# EAGLE library part 1X10 (library headers(2mm)(samtec))
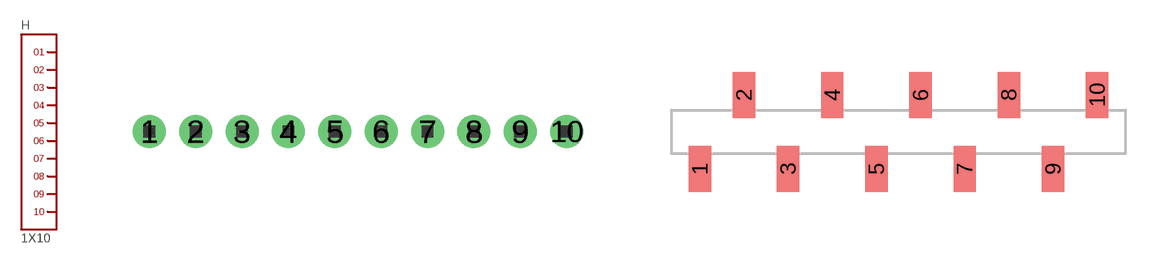
[diagram p12: symbol with the pads of 1X10; footprints 1X10, 1X10_MMS.SV]

Designator prefix H

## 1X10  [1X10]
1  1
2  2
3  3
4  4
5  5
6  6
7  7
8  8
9  9
10  10

## 1X10.MMS.SV  [1X10_MMS.SV]
Pads as for 1X10

## Footprint 1X10 (pad centres in mm)
drill 0.8 pad 1.422: 1 0,0; 2 2,0; 3 4,0; 4 6,0; 5 8,0; 6 10,0; 7 12,0; 8 14,0; 9 16,0; 10 18,0

## Footprint 1X10_MMS.SV (pad centres in mm)
smd 1.016 x 2.083: 1 -8.998,-1.676; 2 -7,1.676; 3 -5,-1.676; 4 -3.002,1.676; 5 -0.999,-1.676; 6 1,1.676; 7 2.999,-1.676; 8 4.998,1.676; 9 7.002,-1.676; 10 9.001,1.676